# Altium schematic symbol library SCH - MCU - NUVOTON - NUVOTON M481LGCAE.SchLib: 1 symbol
Pins are listed as number, name and electrical type; pins without a type are passive.

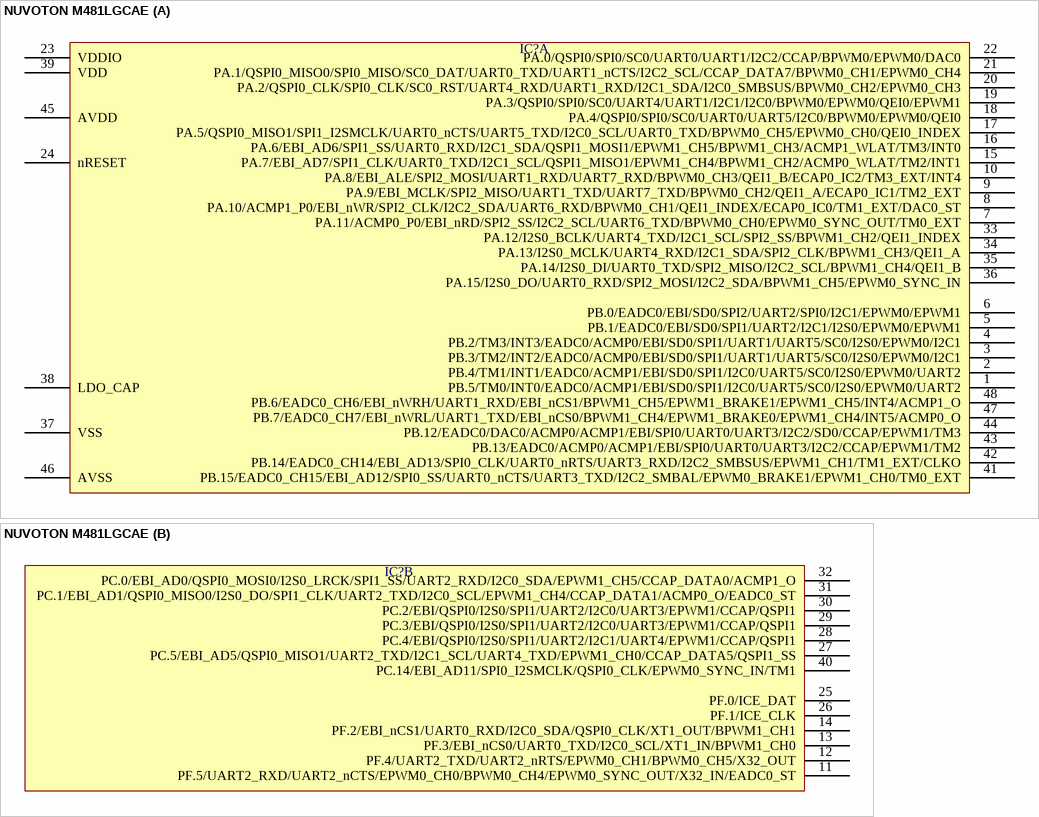
[diagram p0: symbol NUVOTON M481LGCAE]

## NUVOTON M481LGCAE
designator IC?  (value not drawn)
part A pins: 1 PB.5/TM0/INT0/EADC0/ACMP1/EBI/SD0/SPI1/I2C0/UART5/SC0/I2S0/EPWM0/UART2, 2 PB.4/TM1/INT1/EADC0/ACMP1/EBI/SD0/SPI1/I2C0/UART5/SC0/I2S0/EPWM0/UART2, 3 PB.3/TM2/INT2/EADC0/ACMP0/EBI/SD0/SPI1/UART1/UART5/SC0/I2S0/EPWM0/I2C1, 4 PB.2/TM3/INT3/EADC0/ACMP0/EBI/SD0/SPI1/UART1/UART5/SC0/I2S0/EPWM0/I2C1, 5 PB.1/EADC0/EBI/SD0/SPI1/UART2/I2C1/I2S0/EPWM0/EPWM1, 6 PB.0/EADC0/EBI/SD0/SPI2/UART2/SPI0/I2C1/EPWM0/EPWM1, 7 PA.11/ACMP0_P0/EBI_nRD/SPI2_SS/I2C2_SCL/UART6_TXD/BPWM0_CH0/EPWM0_SYNC_OUT/TM0_EXT, 8 PA.10/ACMP1_P0/EBI_nWR/SPI2_CLK/I2C2_SDA/UART6_RXD/BPWM0_CH1/QEI1_INDEX/ECAP0_IC0/TM1_EXT/DAC0_ST, 9 PA.9/EBI_MCLK/SPI2_MISO/UART1_TXD/UART7_TXD/BPWM0_CH2/QEI1_A/ECAP0_IC1/TM2_EXT, 10 PA.8/EBI_ALE/SPI2_MOSI/UART1_RXD/UART7_RXD/BPWM0_CH3/QEI1_B/ECAP0_IC2/TM3_EXT/INT4, 15 PA.7/EBI_AD7/SPI1_CLK/UART0_TXD/I2C1_SCL/QSPI1_MISO1/EPWM1_CH4/BPWM1_CH2/ACMP0_WLAT/TM2/INT1, 16 PA.6/EBI_AD6/SPI1_SS/UART0_RXD/I2C1_SDA/QSPI1_MOSI1/EPWM1_CH5/BPWM1_CH3/ACMP1_WLAT/TM3/INT0, 17 PA.5/QSPI0_MISO1/SPI1_I2SMCLK/UART0_nCTS/UART5_TXD/I2C0_SCL/UART0_TXD/BPWM0_CH5/EPWM0_CH0/QEI0_INDEX, 18 PA.4/QSPI0/SPI0/SC0/UART0/UART5/I2C0/BPWM0/EPWM0/QEI0, 19 PA.3/QSPI0/SPI0/SC0/UART4/UART1/I2C1/I2C0/BPWM0/EPWM0/QEI0/EPWM1, 20 PA.2/QSPI0_CLK/SPI0_CLK/SC0_RST/UART4_RXD/UART1_RXD/I2C1_SDA/I2C0_SMBSUS/BPWM0_CH2/EPWM0_CH3, 21 PA.1/QSPI0_MISO0/SPI0_MISO/SC0_DAT/UART0_TXD/UART1_nCTS/I2C2_SCL/CCAP_DATA7/BPWM0_CH1/EPWM0_CH4, 22 PA.0/QSPI0/SPI0/SC0/UART0/UART1/I2C2/CCAP/BPWM0/EPWM0/DAC0, 23 VDDIO, 24 nRESET, 33 PA.12/I2S0_BCLK/UART4_TXD/I2C1_SCL/SPI2_SS/BPWM1_CH2/QEI1_INDEX, 34 PA.13/I2S0_MCLK/UART4_RXD/I2C1_SDA/SPI2_CLK/BPWM1_CH3/QEI1_A, 35 PA.14/I2S0_DI/UART0_TXD/SPI2_MISO/I2C2_SCL/BPWM1_CH4/QEI1_B, 36 PA.15/I2S0_DO/UART0_RXD/SPI2_MOSI/I2C2_SDA/BPWM1_CH5/EPWM0_SYNC_IN, 37 VSS, 38 LDO_CAP, 39 VDD, 41 PB.15/EADC0_CH15/EBI_AD12/SPI0_SS/UART0_nCTS/UART3_TXD/I2C2_SMBAL/EPWM0_BRAKE1/EPWM1_CH0/TM0_EXT, 42 PB.14/EADC0_CH14/EBI_AD13/SPI0_CLK/UART0_nRTS/UART3_RXD/I2C2_SMBSUS/EPWM1_CH1/TM1_EXT/CLKO, 43 PB.13/EADC0/ACMP0/ACMP1/EBI/SPI0/UART0/UART3/I2C2/CCAP/EPWM1/TM2, 44 PB.12/EADC0/DAC0/ACMP0/ACMP1/EBI/SPI0/UART0/UART3/I2C2/SD0/CCAP/EPWM1/TM3, 45 AVDD, 46 AVSS, 47 PB.7/EADC0_CH7/EBI_nWRL/UART1_TXD/EBI_nCS0/BPWM1_CH4/EPWM1_BRAKE0/EPWM1_CH4/INT5/ACMP0_O, 48 PB.6/EADC0_CH6/EBI_nWRH/UART1_RXD/EBI_nCS1/BPWM1_CH5/EPWM1_BRAKE1/EPWM1_CH5/INT4/ACMP1_O
part B pins: 11 PF.5/UART2_RXD/UART2_nCTS/EPWM0_CH0/BPWM0_CH4/EPWM0_SYNC_OUT/X32_IN/EADC0_ST, 12 PF.4/UART2_TXD/UART2_nRTS/EPWM0_CH1/BPWM0_CH5/X32_OUT, 13 PF.3/EBI_nCS0/UART0_TXD/I2C0_SCL/XT1_IN/BPWM1_CH0, 14 PF.2/EBI_nCS1/UART0_RXD/I2C0_SDA/QSPI0_CLK/XT1_OUT/BPWM1_CH1, 25 PF.0/ICE_DAT, 26 PF.1/ICE_CLK, 27 PC.5/EBI_AD5/QSPI0_MISO1/UART2_TXD/I2C1_SCL/UART4_TXD/EPWM1_CH0/CCAP_DATA5/QSPI1_SS, 28 PC.4/EBI/QSPI0/I2S0/SPI1/UART2/I2C1/UART4/EPWM1/CCAP/QSPI1, 29 PC.3/EBI/QSPI0/I2S0/SPI1/UART2/I2C0/UART3/EPWM1/CCAP/QSPI1, 30 PC.2/EBI/QSPI0/I2S0/SPI1/UART2/I2C0/UART3/EPWM1/CCAP/QSPI1, 31 PC.1/EBI_AD1/QSPI0_MISO0/I2S0_DO/SPI1_CLK/UART2_TXD/I2C0_SCL/EPWM1_CH4/CCAP_DATA1/ACMP0_O/EADC0_ST, 32 PC.0/EBI_AD0/QSPI0_MOSI0/I2S0_LRCK/SPI1_SS/UART2_RXD/I2C0_SDA/EPWM1_CH5/CCAP_DATA0/ACMP1_O, 40 PC.14/EBI_AD11/SPI0_I2SMCLK/QSPI0_CLK/EPWM0_SYNC_IN/TM1